# Altium schematic symbol library transformers.SchLib: 4 symbols
Pins are listed as number, name and electrical type; pins without a type are passive.

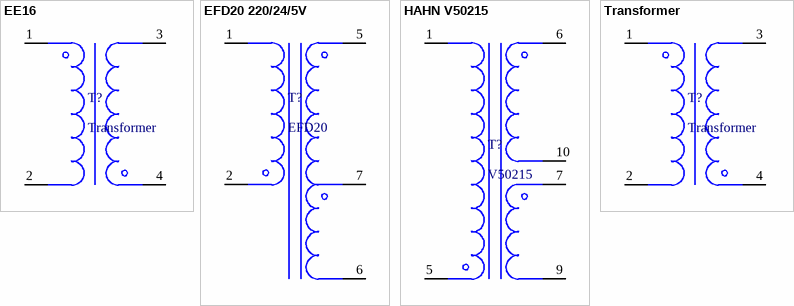
[diagram p0: symbols EE16 to Transformer]

## EE16
designator T?, comment Transformer
Isolation transformer
footprint EE16/4+4 (Transformer)
pins: 1, 2, 3, 4

## EFD20 220/24/5V
designator T?, comment EFD20
Transformer
footprint EFD20 (Transformer Horizontal)
pins: 1, 2, 5, 6, 7

## HAHN V50215
designator T?, comment V50215
EE20 Transformer 220/24/3.3V
footprint HAHN V50215 (EE20 transformer)
pins: 1, 5, 6, 7, 9, 10

## Transformer
designator T?
pins: 1, 2, 3, 4